# Altium footprint library 5630[].PcbLib: 1 footprints
Each footprint in its own frame and in the unit in brackets; x right, y up, seen from the top. Pads: shape width x height; smd on the part's side, far side on the other; paste and mask are expansions set on the pad; w line width, h text height; cw(c..) or ccw(c..) is an arc to the next point about the centre after c.
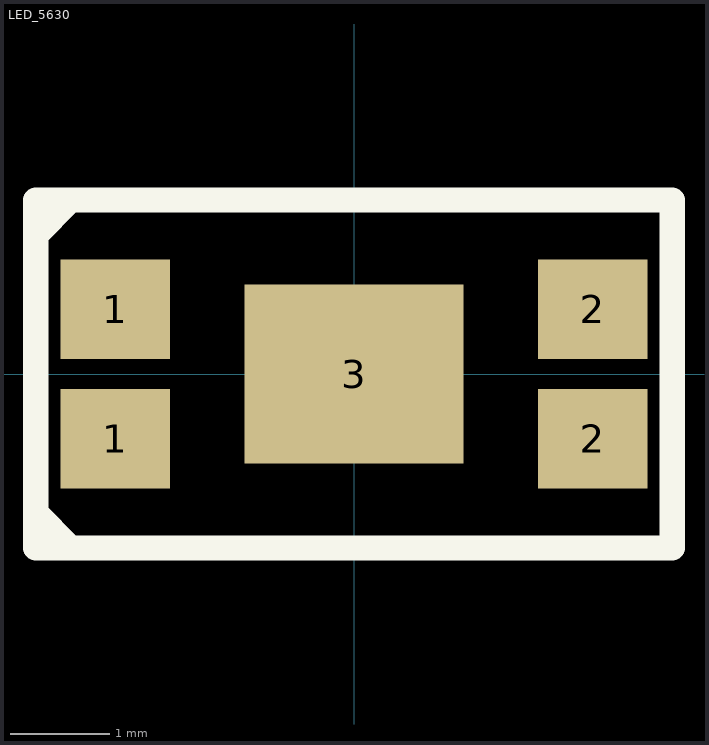
[diagram p0: the footprint, top view; thin cyan lines are the x and y axes]

## LED_5630 [mm] "SMD LED 5630"
height 2
pads (5):
  rect 1.1x1 smd: 1(-2.4,0.65) 1(-2.4,-0.65) 2(2.4,0.65) 2(2.4,-0.65)
  rect 2.2x1.8 smd: 3(0,0)
Top Overlay:
  lines w0.254: -3.2,-1.375 -3.2,-1.4 -2.85,-1.75 ; -3.2,1.375 -3.2,1.4 -2.85,1.75 ; -3.2,-1.75 -3.2,1.75 3.2,1.75 3.2,-1.75 -3.2,-1.75
3D body "User Library-LED_5630.step": height 0.86, standoff -0.04, extent -2.8,-1.5 2.8,1.5